# EAGLE library part INA317IDGKT (library INA317IDGKT)
Check availability <https://pricing.snapeda.com/parts/INA317IDGKT/Texas%20Instruments/view-part?ref=eda>
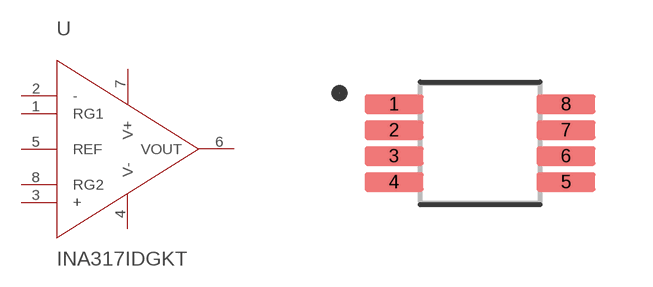
[diagram p0: symbol with the pads of SOP65P490X110-8N; footprint SOP65P490X110-8N]

Designator prefix U

## INA317IDGKT (AVAILABILITY: In Stock; CHECK_PRICES: https://www.snapeda.com/parts/INA317IDGKT/Texas+Instruments/view-part/?ref=eda; DESCRIPTION: Micro-power (50µA), zero-drift (75µV offset, 0.3µV/˚C), precision RRO instrumentation amplifier; MF: Texas Instruments; MP: INA317IDGKT; PACKAGE: VSSOP-8 Texas Instruments; PRICE: None; PURCHASE-URL: https://www.snapeda.com/api/url_track_click_mouser/?unipart_id=3077446&manufacturer=Texas Instruments&part_name=INA317IDGKT&search_term=ina317; SNAPEDA_LINK: https://www.snapeda.com/parts/INA317IDGKT/Texas+Instruments/view-part/?ref=snap)  [SOP65P490X110-8N]
1  RG1
2  -
3  +  in
4  V-
5  REF  in
6  VOUT  out
7  V+  pwr
8  RG2

## Footprint SOP65P490X110-8N (pad centres in mm)
smd 1.47 x 0.48: 1 -2.15,0.975; 2 -2.15,0.325; 3 -2.15,-0.325; 4 -2.15,-0.975; 5 2.15,-0.975; 6 2.15,-0.325; 7 2.15,0.325; 8 2.15,0.975